# Altium footprint library USB-A.PcbLib: 1 footprints
Each footprint in its own frame and in the unit in brackets; x right, y up, seen from the top. Pads: shape width x height; smd on the part's side, far side on the other; paste and mask are expansions set on the pad; w line width, h text height; cw(c..) or ccw(c..) is an arc to the next point about the centre after c.
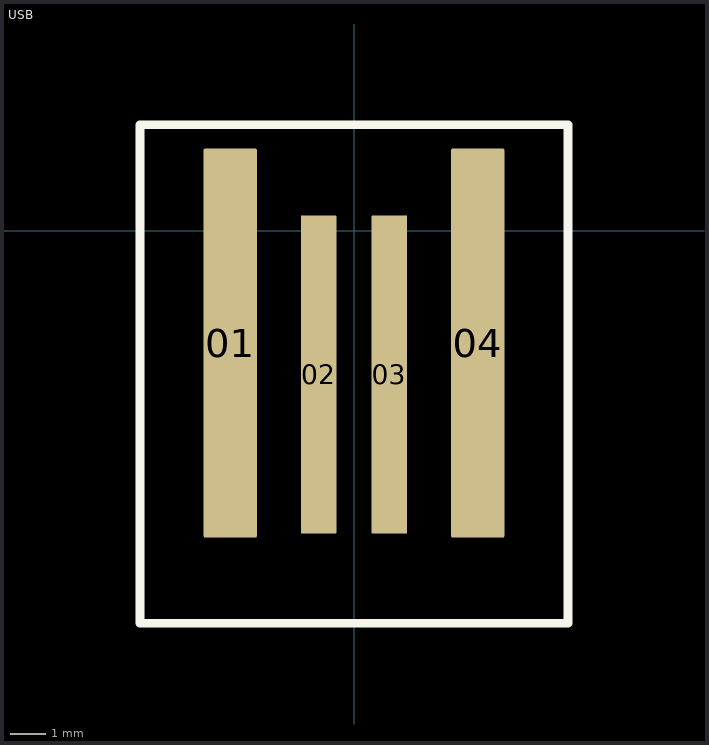
[diagram p0: the footprint, top view; thin cyan lines are the x and y axes]

## USB [mm]
pads (4):
  rrect4% 1.5x11 smd: 01(-3.5,-3.175) 04(3.5,-3.175)
  rrect4% 1x9 smd: 02(-1,-4.064) 03(1,-4.064)
Top Overlay:
  lines w0.254: -6.05,3 -6.05,0.127 -6.05,-11.1 6.05,-11.1 6.05,3 -5.969,3